# EAGLE library part TC2030-MCP-NL (library stepOSP)
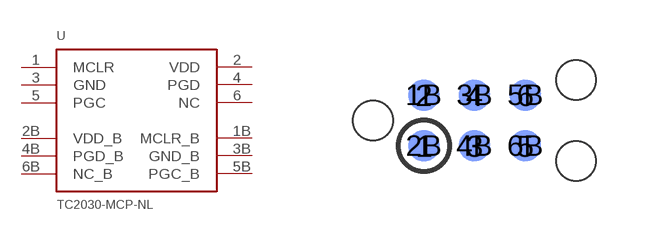
[diagram p4: symbol with the pads of TC2030-IDC-NL; footprint TC2030-IDC-NL]

Designator prefix -

## TC2030-MCP-NL  [TC2030-IDC-NL]
1  MCLR
1B  MCLR_B
2  VDD
2B  VDD_B
3  GND
3B  GND_B
4  PGD
4B  PGD_B
5  PGC
5B  PGC_B
6  NC
6B  NC_B

## Footprint TC2030-IDC-NL (pad centres in mm)
smd 0.787 x 0.787: 1 -1.27,-0.635; 2 -1.27,0.635; 3 0,-0.635; 4 0,0.635; 5 1.27,-0.635; 6 1.27,0.635
smd 0.787 x 0.787 bottom: 1B -1.27,0.635; 2B -1.27,-0.635; 3B 0,0.635; 4B 0,-0.635; 5B 1.27,0.635; 6B 1.27,-0.635
hole 0.991 at -2.54,0
hole 0.991 at 2.54,1.016
hole 0.991 at 2.54,-1.016